# EAGLE library part NE555 (library sj_ic)
555 Timer
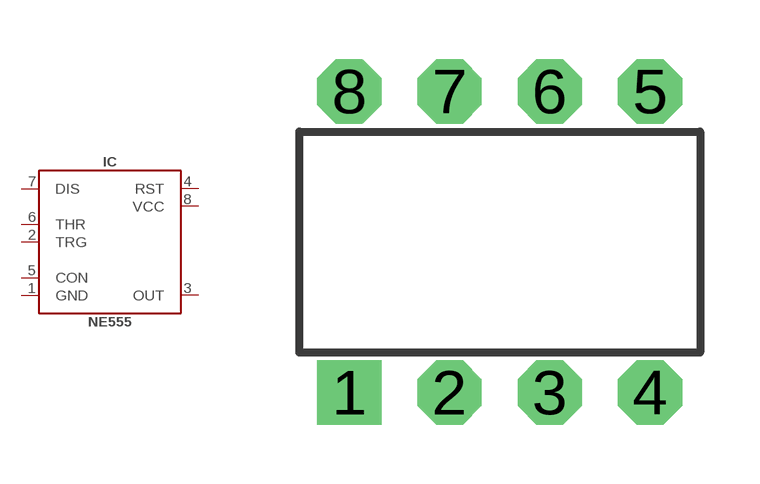
[diagram p4: symbol with the pads of DIP08; footprint DIP08]

Designator prefix IC

## NE555  [DIP08]
1  GND  pwr
2  TRG  in
3  OUT  out
4  RST  in
5  CON  in
6  THR  in
7  DIS  in
8  VCC  pwr

## Footprint DIP08 (pad centres in mm)
8-pin Dual In Line Package
drill 0.813 pad 1.626 square: 1 -3.81,-3.81
drill 0.813 pad 1.626 octagon: 2 -1.27,-3.81; 3 1.27,-3.81; 4 3.81,-3.81; 5 3.81,3.81; 6 1.27,3.81; 7 -1.27,3.81; 8 -3.81,3.81